# EAGLE library part CYPRESS_CY7C68001_(SX2) (library ##eigene)
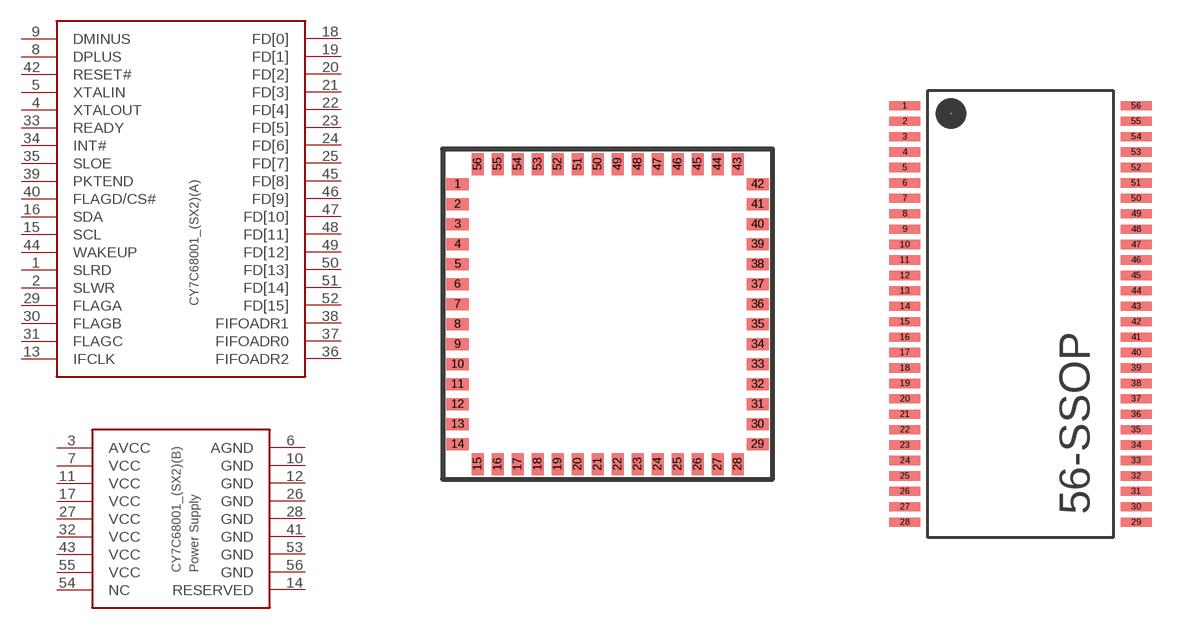
[diagram p1: symbol with the pads of 56-QFN; footprints 56-QFN, 56-SSOP]

Designator prefix CY7C68001_(SX2); gates (A)=CYPRESS_C7C68001_SX2_MAIN (B)=CYPRESS_C7C68001_SX2_POWER

## CYPRESS_CY7C68001_(SX2)""  [56-QFN]
1  (A):SLRD  in
2  (A):SLWR  in
3  (B):AVCC  in
4  (A):XTALOUT  out
5  (A):XTALIN  in
6  (B):AGND  in
7  (B):VCC  pwr
8  (A):DPLUS
9  (A):DMINUS
10  (B):GND  pwr
11  (B):VCC  pwr
12  (B):GND  pwr
13  (A):IFCLK
14  (B):RESERVED  in
15  (A):SCL
16  (A):SDA
17  (B):VCC  pwr
18  (A):FD[0]
19  (A):FD[1]
20  (A):FD[2]
21  (A):FD[3]
22  (A):FD[4]
23  (A):FD[5]
24  (A):FD[6]
25  (A):FD[7]
26  (B):GND  pwr
27  (B):VCC  pwr
28  (B):GND  pwr
29  (A):FLAGA  out
30  (A):FLAGB  out
31  (A):FLAGC  out
32  (B):VCC  pwr
33  (A):READY  out
34  (A):INT#  out
35  (A):SLOE  in
36  (A):FIFOADR2  in
37  (A):FIFOADR0  in
38  (A):FIFOADR1  in
39  (A):PKTEND  in
40  (A):FLAGD/CS#
41  (B):GND  pwr
42  (A):RESET#
43  (B):VCC  pwr
44  (A):WAKEUP  in
45  (A):FD[8]
46  (A):FD[9]
47  (A):FD[10]
48  (A):FD[11]
49  (A):FD[12]
50  (A):FD[13]
51  (A):FD[14]
52  (A):FD[15]
53  (B):GND  pwr
54  (B):NC  nc
55  (B):VCC  pwr
56  (B):GND  pwr

## CYPRESS_CY7C68001_(SX2)  [56-SSOP]
1  (A):FD[13]
2  (A):FD[14]
3  (A):FD[15]
4  (B):GND  pwr
5  (B):NC  nc
6  (B):VCC  pwr
7  (B):GND  pwr
8  (A):SLRD  in
9  (A):SLWR  in
10  (B):AVCC  in
11  (A):XTALOUT  out
12  (A):XTALIN  in
13  (B):AGND  in
14  (B):VCC  pwr
15  (A):DPLUS
16  (A):DMINUS
17  (B):GND  pwr
18  (B):VCC  pwr
19  (B):GND  pwr
20  (A):IFCLK
21  (B):RESERVED  in
22  (A):SCL
23  (A):SDA
24  (B):VCC  pwr
25  (A):FD[0]
26  (A):FD[1]
27  (A):FD[2]
28  (A):FD[3]
29  (A):FD[4]
30  (A):FD[5]
31  (A):FD[6]
32  (A):FD[7]
33  (B):GND  pwr
34  (B):VCC  pwr
35  (B):GND  pwr
36  (A):FLAGA  out
37  (A):FLAGB  out
38  (A):FLAGC  out
39  (B):VCC  pwr
40  (A):READY  out
41  (A):INT#  out
42  (A):SLOE  in
43  (A):FIFOADR2  in
44  (A):FIFOADR0  in
45  (A):FIFOADR1  in
46  (A):PKTEND  in
47  (A):FLAGD/CS#
48  (B):GND  pwr
49  (A):RESET#
50  (B):VCC  pwr
51  (A):WAKEUP  in
52  (A):FD[8]
53  (A):FD[9]
54  (A):FD[10]
55  (A):FD[11]
56  (A):FD[12]

## Footprint 56-QFN (pad centres in mm)
smd 0.55 x 0.3: 1 -3.75,2.75; 2 -3.75,2.25; 3 -3.75,1.75; 4 -3.75,1.25; 5 -3.75,0.75; 6 -3.75,0.25; 7 -3.75,-0.25; 8 -3.75,-0.75; 9 -3.75,-1.25; 10 -3.75,-1.75; 11 -3.75,-2.25; 12 -3.75,-2.75; 13 -3.75,-3.25; 14 -3.75,-3.75; 29 3.75,-3.75; 30 3.75,-3.25; 31 3.75,-2.75; 32 3.75,-2.25; 33 3.75,-1.75; 34 3.75,-1.25; 35 3.75,-0.75; 36 3.75,-0.25; 37 3.75,0.25; 38 3.75,0.75; 39 3.75,1.25; 40 3.75,1.75; 41 3.75,2.25; 42 3.75,2.75
smd 0.3 x 0.55: 15 -3.25,-4.25; 16 -2.75,-4.25; 17 -2.25,-4.25; 18 -1.75,-4.25; 19 -1.25,-4.25; 20 -0.75,-4.25; 21 -0.25,-4.25; 22 0.25,-4.25; 23 0.75,-4.25; 24 1.25,-4.25; 25 1.75,-4.25; 26 2.25,-4.25; 27 2.75,-4.25; 28 3.25,-4.25; 43 3.25,3.25; 44 2.75,3.25; 45 2.25,3.25; 46 1.75,3.25; 47 1.25,3.25; 48 0.75,3.25; 49 0.25,3.25; 50 -0.25,3.25; 51 -0.75,3.25; 52 -1.25,3.25; 53 -1.75,3.25; 54 -2.25,3.25; 55 -2.75,3.25; 56 -3.25,3.25

## Footprint 56-SSOP (pad centres in mm)
smd 1.27 x 0.381: 1 -4.763,8.572; 2 -4.763,7.938; 3 -4.763,7.303; 4 -4.763,6.668; 5 -4.763,6.032; 6 -4.763,5.397; 7 -4.763,4.763; 8 -4.763,4.128; 9 -4.763,3.493; 10 -4.763,2.857; 11 -4.763,2.223; 12 -4.763,1.587; 13 -4.763,0.953; 14 -4.763,0.318; 15 -4.763,-0.318; 16 -4.763,-0.953; 17 -4.763,-1.587; 18 -4.763,-2.223; 19 -4.763,-2.857; 20 -4.763,-3.493; 21 -4.763,-4.128; 22 -4.763,-4.763; 23 -4.763,-5.397; 24 -4.763,-6.032; 25 -4.763,-6.668; 26 -4.763,-7.303; 27 -4.763,-7.938; 28 -4.763,-8.572; 29 4.763,-8.572; 30 4.763,-7.938; 31 4.763,-7.303; 32 4.763,-6.668; 33 4.763,-6.032; 34 4.763,-5.397; 35 4.763,-4.763; 36 4.763,-4.128; 37 4.763,-3.493; 38 4.763,-2.857; 39 4.763,-2.223; 40 4.763,-1.587; 41 4.763,-0.953; 42 4.763,-0.318; 43 4.763,0.318; 44 4.763,0.953; 45 4.763,1.587; 46 4.763,2.223; 47 4.763,2.857; 48 4.763,3.493; 49 4.763,4.128; 50 4.763,4.763; 51 4.763,5.397; 52 4.763,6.032; 53 4.763,6.668; 54 4.763,7.303; 55 4.763,7.938; 56 4.763,8.572